# EAGLE library part LT5560 (library custom)
RF Active Mixer IC 0.01-4GHz 2.4dB Gain 9.3dB NF -2dBm LO Balanced
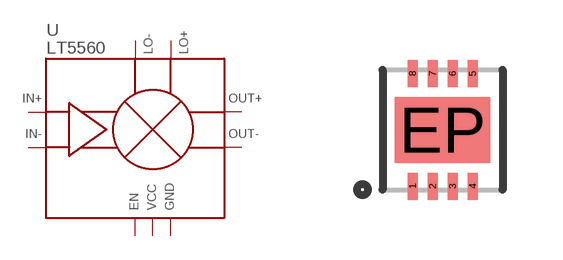
[diagram p83: symbol with the pads of 8-DFN; footprint 8-DFN]

Designator prefix U

## LT5560  [8-DFN]
1  LO-
2  EN
3  IN+
4  IN-
5  OUT-
6  OUT+
7  VCC
8  LO+
EP  GND

## Footprint 8-DFN (pad centres in mm)
smd 0.25 x 0.675: 1 -0.75,-1.413; 2 -0.25,-1.413; 3 0.25,-1.413; 4 0.75,-1.413; 5 0.75,1.413; 6 0.25,1.413; 7 -0.25,1.413; 8 -0.75,1.413
smd 2.38 x 1.65: EP 0,0